# EAGLE library part DC10GWA (library jasons_stuff)
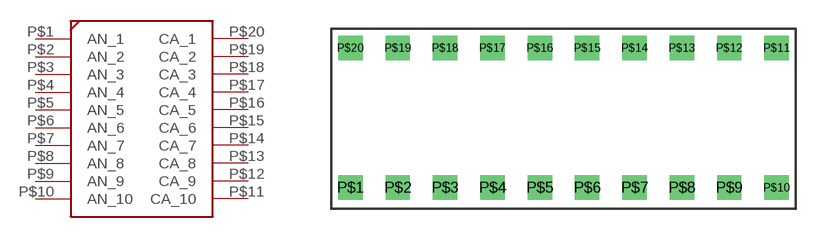
[diagram p8: symbol with the pads of DC10GWA; footprint DC10GWA]

Designator prefix -

## DC10GWA  [DC10GWA]
P$1  AN_1
P$2  AN_2
P$3  AN_3
P$4  AN_4
P$5  AN_5
P$6  AN_6
P$7  AN_7
P$8  AN_8
P$9  AN_9
P$10  AN_10
P$11  CA_10
P$12  CA_9
P$13  CA_8
P$14  CA_7
P$15  CA_6
P$16  CA_5
P$17  CA_4
P$18  CA_3
P$19  CA_2
P$20  CA_1

## Footprint DC10GWA (pad centres in mm)
drill 0.8 square: P$1 -10.16,-2.413; P$2 -7.62,-2.413; P$3 -5.08,-2.413; P$4 -2.54,-2.413; P$5 0,-2.413; P$6 2.54,-2.413; P$7 5.08,-2.413; P$8 7.62,-2.413; P$9 10.16,-2.413; P$10 12.7,-2.413; P$11 12.7,5.08; P$12 10.16,5.08; P$13 7.62,5.08; P$14 5.08,5.08; P$15 2.54,5.08; P$16 0,5.08; P$17 -2.54,5.08; P$18 -5.08,5.08; P$19 -7.62,5.08; P$20 -10.16,5.08